# Altium schematic symbol library Components - 25.02.24 - 14.56.SchLib: 1 symbol
Pins are listed as number, name and electrical type; pins without a type are passive.

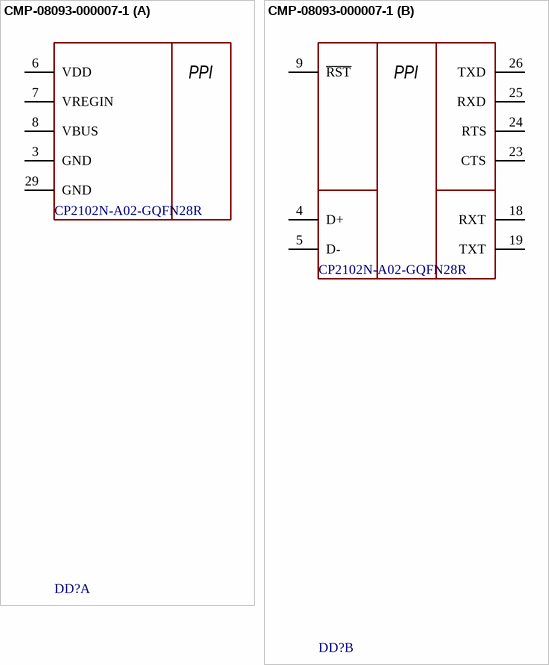
[diagram p0: symbol CMP-08093-000007-1]

## CMP-08093-000007-1
designator DD?, comment CP2102N-A02-GQFN28R
IC USB TO UART BRIDGE QFN28
footprint FP-CP2102N-A02-GQFN28R-IPC_C
footprint FP-CP2102N-A02-GQFN28R-IPC_B
footprint FP-CP2102N-A02-GQFN28R-IPC_A
part A pins: 3 GND (power), 6 VDD (power), 7 VREGIN (power), 8 VBUS (power), 29 GND (power)
part B pins: 4 D+ (power), 5 D- (power), 9 ~{RST} (power), 18 RXT (power), 19 TXT (power), 23 CTS (power), 24 RTS (power), 25 RXD (power), 26 TXD (power)
part A text: PPI
part B text: PPI